# EAGLE library part SN74AHCT125 (library SN74AHCT125N)
Quadruple bus buffer gates (logic level shifter)
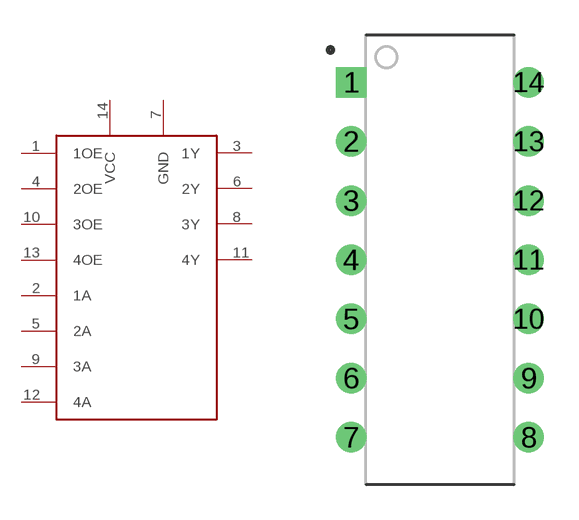
[diagram p0: symbol with the pads of DIP762W46P254L1930H508Q14; footprint DIP762W46P254L1930H508Q14]

Designator prefix -

## SN74AHCT125  [DIP762W46P254L1930H508Q14]
1  1OE
2  1A
3  1Y
4  2OE
5  2A
6  2Y
7  GND
8  3Y
9  3A
10  3OE
11  4Y
12  4A
13  4OE
14  VCC

## Footprint DIP762W46P254L1930H508Q14 (pad centres in mm)
drill 0.8 square: 1 -3.81,7.62
drill 0.8: 2 -3.81,5.08; 3 -3.81,2.54; 4 -3.81,0; 5 -3.81,-2.54; 6 -3.81,-5.08; 7 -3.81,-7.62; 8 3.81,-7.62; 9 3.81,-5.08; 10 3.81,-2.54; 11 3.81,0; 12 3.81,2.54; 13 3.81,5.08; 14 3.81,7.62